# Altium integrated library Diode.IntLib: 2 symbols
Pins are listed as number, name and electrical type; pins without a type are passive.

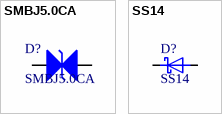
[diagram p0: symbols SMBJ5.0CA to SS14]

## SMBJ5.0CA
designator D?
SMBJ5.0CA  TVS
footprint D_SMB/DO-214AA (Molded Diode, 2-Leads, Body 4.31x3.62mm, IPC Medium Density)
pins: 1, 2

## SS14
designator D?
肖特基二极管 1A
footprint D_SMA (Molded Diode, 2-Leads, Body 5.00x2.60mm, IPC Medium Density)
pins: 1 K, 2 A